# Altium schematic symbol library WR-RPSMA.SchLib: 10 symbols
Pins are listed as number, name and electrical type; pins without a type are passive.

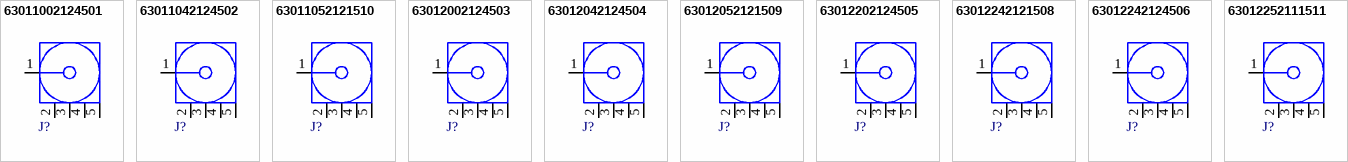
[diagram p0: symbols 63011002124501 to 63012252111511]

## 63011002124501
designator J?  (value not drawn)
WR-RPSMA Reverse Polarity SMA Connector, PCB THT Jack, Right Angle, DC~18GHz, 50Ω; Manufacturer: Wurth Elektronik; Center Contact Diameter: 1.27mm; Connector Type: RP SMA; Interface Type: MIL-STD-348; ComponentLink1Description: Website Link; ComponentLink1URL: https://www.we-online.com/redexpert/article/63011002124501?ad; ComponentLink2Description: Datasheet Link; ComponentLink2URL: https://www.we-online.com/redexpert/spec/63011002124501?ad; Manufacturer Part Number: 63011002124501; Category: Coaxial Connectors; Match Code: WR-RPSMA; Mount: Through Hole; Operating Temperature Max: 165°C; Operating Temperature Min: -65°C; Packaging: Tray; Frequency Range: DC~18GHz; Gender: Jack; Impedance: 50Ω; Orientation: Right Angle
footprint 63011002124501
pins: 1 Signal "Signal Pin", 2 GND, 3 GND, 4 GND, 5 GND

## 63011042124502
designator J?  (value not drawn)
WR-RPSMA Reverse Polarity SMA Connector, PCB THT Jack, Right Angle, DC~18GHz, 50Ω; Manufacturer: Wurth Elektronik; Center Contact Diameter: 1.27mm; Connector Type: RP SMA; Interface Type: MIL-STD-348; ComponentLink1Description: Website Link; ComponentLink1URL: https://www.we-online.com/redexpert/article/63011042124502?ad; ComponentLink2Description: Datasheet Link; ComponentLink2URL: https://www.we-online.com/redexpert/spec/63011042124502?ad; Manufacturer Part Number: 63011042124502; Category: Coaxial Connectors; Match Code: WR-RPSMA; Mount: Through Hole; Operating Temperature Max: 165°C; Operating Temperature Min: -65°C; Packaging: Tray; Frequency Range: DC~18GHz; Gender: Jack; Impedance: 50Ω; Orientation: Right Angle
footprint 63011042124502
pins: 1 Signal "Signal Pin", 2 GND, 3 GND, 4 GND, 5 GND

## 63011052121510
designator J?  (value not drawn)
WR-RPSMA Reverse Polarity SMA Connector, PCB THT Jack, Right Angle, DC~6GHz, 50Ω; Manufacturer: Wurth Elektronik; Center Contact Diameter: 1.27mm; Connector Type: RP SMA; Interface Type: MIL-STD-348; ComponentLink1Description: Website Link; ComponentLink1URL: https://www.we-online.com/redexpert/article/63011052121510?ad; ComponentLink2Description: Datasheet Link; ComponentLink2URL: https://www.we-online.com/redexpert/spec/63011052121510?ad; Manufacturer Part Number: 63011052121510; Category: Coaxial Connectors; Match Code: WR-RPSMA; Mount: Through Hole; Operating Temperature Max: 165°C; Operating Temperature Min: -65°C; Packaging: Tray; Frequency Range: DC~6GHz; Gender: Jack; Impedance: 50Ω; Orientation: Right Angle
footprint 63011052121510
pins: 1 Signal "Signal Pin", 2 GND, 3 GND, 4 GND, 5 GND

## 63012002124503
designator J?  (value not drawn)
WR-RPSMA Reverse Polarity SMA Connector, PCB THT Jack, Straight, DC~18GHz, 50Ω; Manufacturer: Wurth Elektronik; Center Contact Diameter: 1.27mm; Connector Type: RP SMA; Interface Type: MIL-STD-348; ComponentLink1Description: Website Link; ComponentLink1URL: https://www.we-online.com/redexpert/article/63012002124503?ad; ComponentLink2Description: Datasheet Link; ComponentLink2URL: https://www.we-online.com/redexpert/spec/63012002124503?ad; Manufacturer Part Number: 63012002124503; Category: Coaxial Connectors; Match Code: WR-RPSMA; Mount: Through Hole; Operating Temperature Max: 165°C; Operating Temperature Min: -65°C; Packaging: Tray; Frequency Range: DC~18GHz; Gender: Jack; Impedance: 50Ω; Orientation: Straight
footprint 63012002124503
pins: 1 Signal "Signal Pin", 2 GND, 3 GND, 4 GND, 5 GND

## 63012042124504
designator J?  (value not drawn)
WR-RPSMA Reverse Polarity SMA Connector, PCB THT Jack, Straight, DC~18GHz, 50Ω; Manufacturer: Wurth Elektronik; Center Contact Diameter: 1.27mm; Connector Type: RP SMA; Interface Type: MIL-STD-348; ComponentLink1Description: Website Link; ComponentLink1URL: https://www.we-online.com/redexpert/article/63012042124504?ad; ComponentLink2Description: Datasheet Link; ComponentLink2URL: https://www.we-online.com/redexpert/spec/63012042124504?ad; Manufacturer Part Number: 63012042124504; Category: Coaxial Connectors; Match Code: WR-RPSMA; Mount: Through Hole; Operating Temperature Max: 165°C; Operating Temperature Min: -65°C; Packaging: Tray; Frequency Range: DC~18GHz; Gender: Jack; Impedance: 50Ω; Orientation: Straight
footprint 63012042124504
pins: 1 Signal "Signal Pin", 2 GND, 3 GND, 4 GND, 5 GND

## 63012052121509
designator J?  (value not drawn)
WR-RPSMA Reverse Polarity SMA Connector, PCB THT Jack, Straight, DC~6GHz, 50Ω; Manufacturer: Wurth Elektronik; Center Contact Diameter: 1.27mm; Connector Type: RP SMA; Interface Type: MIL-STD-348; ComponentLink1Description: Website Link; ComponentLink1URL: https://www.we-online.com/redexpert/article/63012052121509?ad; ComponentLink2Description: Datasheet Link; ComponentLink2URL: https://www.we-online.com/redexpert/spec/63012052121509?ad; Manufacturer Part Number: 63012052121509; Category: Coaxial Connectors; Match Code: WR-RPSMA; Mount: Through Hole; Operating Temperature Max: 165°C; Operating Temperature Min: -65°C; Packaging: Tray; Frequency Range: DC~6GHz; Gender: Jack; Impedance: 50Ω; Orientation: Straight
footprint 63012052121509
pins: 1 Signal "Signal Pin", 2 GND, 3 GND, 4 GND, 5 GND

## 63012202124505
designator J?  (value not drawn)
WR-RPSMA Reverse Polarity SMA Connector, PCB End Launch Jack, Straight, DC~18GHz, 50Ω; Manufacturer: Wurth Elektronik; Center Contact Diameter: 0.76mm; Connector Type: RP SMA; Interface Type: MIL-STD-348; ComponentLink1Description: Website Link; ComponentLink1URL: https://www.we-online.com/redexpert/article/63012202124505?ad; ComponentLink2Description: Datasheet Link; ComponentLink2URL: https://www.we-online.com/redexpert/spec/63012202124505?ad; Manufacturer Part Number: 63012202124505; Category: Coaxial Connectors; Match Code: WR-RPSMA; Mount: End Launch; Operating Temperature Max: 165°C; Operating Temperature Min: -65°C; Packaging: Tray; Frequency Range: DC~18GHz; Gender: Jack; Impedance: 50Ω; Orientation: Straight
footprint 63012202124505
pins: 1 Signal "Signal Pin", 2 GND, 3 GND, 4 GND, 5 GND

## 63012242121508
designator J?  (value not drawn)
WR-RPSMA Reverse Polarity SMA Connector, PCB End Launch Jack, Straight, DC~6GHz, 50Ω; Manufacturer: Wurth Elektronik; Center Contact Diameter: 0.76mm; Connector Type: RP SMA; Interface Type: MIL-STD-348; ComponentLink1Description: Website Link; ComponentLink1URL: https://www.we-online.com/redexpert/article/63012242121508?ad; ComponentLink2Description: Datasheet Link; ComponentLink2URL: https://www.we-online.com/redexpert/spec/63012242121508?ad; Manufacturer Part Number: 63012242121508; Category: Coaxial Connectors; Match Code: WR-RPSMA; Mount: End Launch; Operating Temperature Max: 165°C; Operating Temperature Min: -65°C; Packaging: Tray; Frequency Range: DC~6GHz; Gender: Jack; Impedance: 50Ω; Orientation: Straight
footprint 63012242121508
pins: 1 Signal "Signal Pin", 2 GND, 3 GND, 4 GND, 5 GND

## 63012242124506
designator J?  (value not drawn)
WR-RPSMA Reverse Polarity SMA Connector, PCB End Launch Jack, Straight, DC~18GHz, 50Ω; Manufacturer: Wurth Elektronik; Center Contact Diameter: 0.76mm; Connector Type: RP SMA; Interface Type: MIL-STD-348; ComponentLink1Description: Website Link; ComponentLink1URL: https://www.we-online.com/redexpert/article/63012242124506?ad; ComponentLink2Description: Datasheet Link; ComponentLink2URL: https://www.we-online.com/redexpert/spec/63012242124506?ad; Manufacturer Part Number: 63012242124506; Category: Coaxial Connectors; Match Code: WR-RPSMA; Mount: End Launch; Operating Temperature Max: 165°C; Operating Temperature Min: -65°C; Packaging: Tray; Frequency Range: DC~18GHz; Gender: Jack; Impedance: 50Ω; Orientation: Straight
footprint 63012242124506
pins: 1 Signal "Signal Pin", 2 GND, 3 GND, 4 GND, 5 GND

## 63012252111511
designator J?  (value not drawn)
WR-RPSMA Reverse Polarity SMA Connector, PCB End Launch Jack, Straight, DC~6GHz, 50Ω; Manufacturer: Wurth Elektronik; Center Contact Diameter: 0.51mm; Connector Type: RP SMA; Interface Type: MIL-STD-348; ComponentLink1Description: Website Link; ComponentLink1URL: https://www.we-online.com/redexpert/article/63012252111511?ad; ComponentLink2Description: Datasheet Link; ComponentLink2URL: https://www.we-online.com/redexpert/spec/63012252111511?ad; Manufacturer Part Number: 63012252111511; Category: Coaxial Connectors; Match Code: WR-RPSMA; Mount: End Launch; Operating Temperature Max: 165°C; Operating Temperature Min: -65°C; Packaging: Tray; Frequency Range: DC~6GHz; Gender: Jack; Impedance: 50Ω; Orientation: Straight
footprint 63012252111511
pins: 1 Signal "Signal Pin", 2 GND, 3 GND, 4 GND, 5 GND